# Altium schematic symbol library logic.SchLib: 8 symbols
Pins are listed as number, name and electrical type; pins without a type are passive.

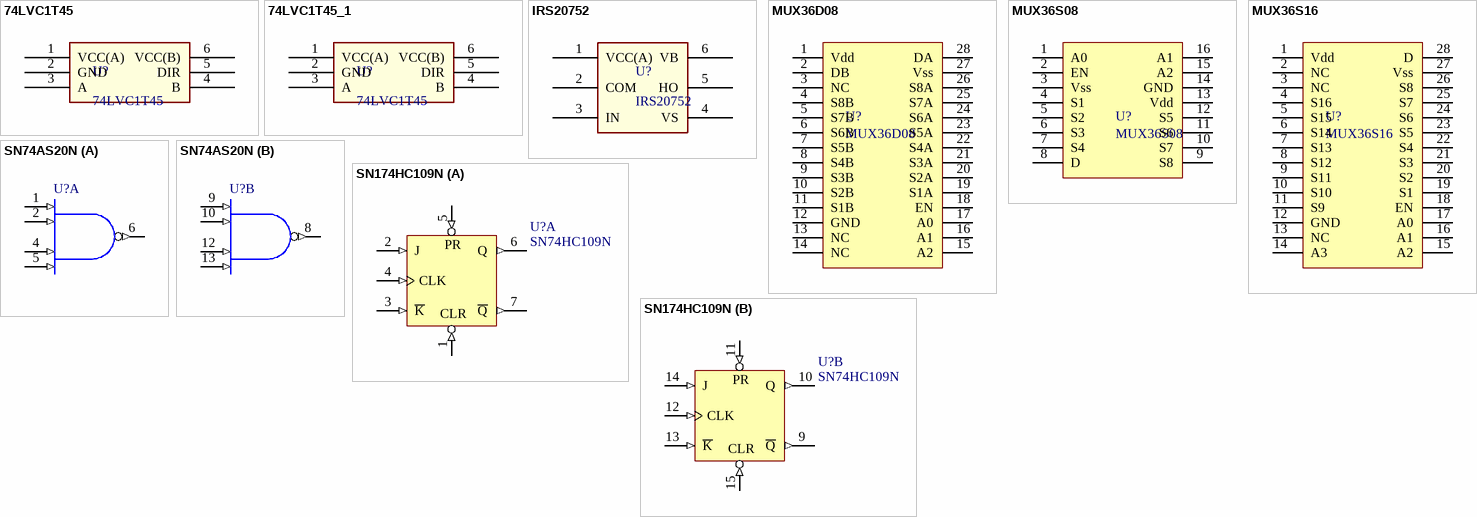
[diagram p0: symbols 74LVC1T45 to SN174HC109N]

## 74LVC1T45
designator U?
pins: 1 VCC(A), 2 GND, 3 A, 4 B, 5 DIR, 6 VCC(B)

## 74LVC1T45_1
designator U?, comment 74LVC1T45
footprint SOT95P285X130-6N (SOT23, 6-Leads, Body 3.00x2.85mm, Pitch 0.95mm, IPC Medium Density)
pins: 1 VCC(A), 2 GND, 3 A (power), 4 B, 5 DIR, 6 VCC(B)

## IRS20752
designator U?
Manufacturer: Infineon; ModelNumber: *
footprint SOT95P280X145-6N (SOT23, 6-Leads, Body 2.90x2.80mm, Pitch 0.95mm, IPC Medium Density)
pins: 1 VCC(A), 2 COM, 3 IN, 4 VS, 5 HO, 6 VB

## MUX36D08
designator U?
pins: 1 Vdd, 2 DB, 3 NC, 4 S8B, 5 S7B, 6 S6B, 7 S5B, 8 S4B, 9 S3B, 10 S2B, 11 S1B, 12 GND, 13 NC, 14 NC, 15 A2, 16 A1, 17 A0, 18 EN, 19 S1A, 20 S2A, 21 S3A, 22 S4A, 23 S5A, 24 S6A, 25 S7A, 26 S8A, 27 Vss, 28 DA

## MUX36S08
designator U?
pins: 1 A0, 2 EN, 3 Vss, 4 S1, 5 S2, 6 S3, 7 S4, 8 D, 9 S8, 10 S7, 11 S6, 12 S5, 13 Vdd, 14 GND, 15 A2, 16 A1

## MUX36S16
designator U?
pins: 1 Vdd, 2 NC, 3 NC, 4 S16, 5 S15, 6 S14, 7 S13, 8 S12, 9 S11, 10 S10, 11 S9, 12 GND, 13 NC, 14 A3, 15 A2, 16 A1, 17 A0, 18 EN, 19 S1, 20 S2, 21 S3, 22 S4, 23 S5, 24 S6, 25 S7, 26 S8, 27 Vss, 28 D

## SN74AS20N
designator U?
Dual 4-Input Positive-NAND Gate; Note: Pins 3 and 11 are not connected and not drawn; Published: 8-Jun-2000; LatestRevisionDate: 04-Mar-2005; LatestRevisionNote: Stylized 3D Model Added.; DatasheetVersion: Dec-1994; PackageVersion: Oct-1995; PackageReference: N014; Publisher: Altium Limited; PackageDescription: DIP; 14 Leads; Row Spacing 7.62 mm; Pitch 2.54 mm; ComponentLink1Description: Manufacturer Link; ComponentLink1URL: http://www.ti.com/; ComponentLink2Description: Datasheet; ComponentLink2URL: http://www-s.ti.com/sc/ds/sn74als20a.pdf
footprint N014 (DIP; 14 Leads; Row Spacing 7.62 mm; Pitch 2.54 mm)
3D model N014 (DIP; 14 Leads; Row Spacing 7.62 mm; Pitch 2.54 mm)
signal-integrity model SN74AS20N
pins on every part: 7 GND (power) hidden to GND, 14 VCC (power) hidden to VCC
part A pins: 1 A (in), 2 B (in), 4 C (in), 5 D (in), 6 Y (out)
part B pins: 8 Y (out), 9 A (in), 10 B (in), 12 C (in), 13 D (in)

## SN174HC109N
designator U?, comment SN74HC109N
Dual J-K Positive-Edge-Triggered Flip-Flop with Clear and Preset; Published: 8-Jun-2000; LatestRevisionDate: 04-Mar-2005; LatestRevisionNote: Stylized 3D Model Added.; DatasheetVersion: Jun-1989; PackageVersion: Oct-1995; PackageReference: N016; Publisher: Altium Limited; PackageDescription: DIP; 16 Leads; Row Spacing 7.62 mm; Pitch 2.54 mm; Code_JEDEC: MS-001-BB; ComponentLink1Description: Manufacturer Link; ComponentLink1URL: http://www.ti.com/; ComponentLink2Description: Datasheet; ComponentLink2URL: http://www-s.ti.com/sc/ds/sn74hc109.pdf
footprint N016 (DIP; 16 Leads; Row Spacing 7.62 mm; Pitch 2.54 mm)
3D model N016 (DIP; 16 Leads; Row Spacing 7.62 mm; Pitch 2.54 mm)
signal-integrity model SN74HC109N
pins on every part: 8 GND (power) hidden to GND, 16 VCC (power) hidden to VCC
part A pins: 1 CLR (in), 2 J (in), 3 ~{K} (in), 4 CLK (in), 5 PR (in), 6 Q (out), 7 ~{Q} (out)
part B pins: 9 ~{Q} (out), 10 Q (out), 11 PR (in), 12 CLK (in), 13 ~{K} (in), 14 J (in), 15 CLR (in)